# EAGLE library part STM8S003F3U6TR (library stm8)
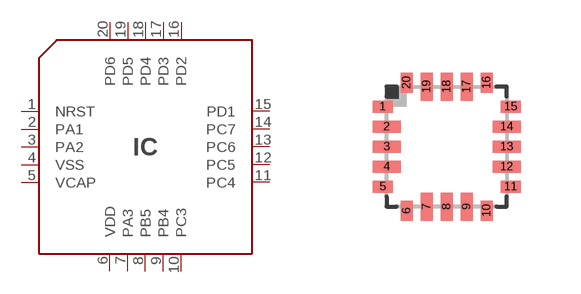
[diagram p2: symbol with the pads of UFQFPN20; footprint UFQFPN20]

Designator prefix IC

## STM8S003F3U6TR-UFQFPN20 (DIGIKEY#: 497-18052-1-ND; LINK: https://www.chipdip.ru/product0/8001794539; MANF: STMicroelectronics; MANF#: STM8S003F3U6TR)  [UFQFPN20]
1  NRST
2  PA1
3  PA2
4  VSS
5  VCAP
6  VDD
7  PA3
8  PB5
9  PB4
10  PC3
11  PC4
12  PC5
13  PC6
14  PC7
15  PD1
16  PD2
17  PD3
18  PD4
19  PD5
20  PD6

## Footprint UFQFPN20 (pad centres in mm)
smd 0.5 x 0.3: 1 -1.6,1; 5 -1.6,-1; 11 1.6,-1; 15 1.6,1
smd 0.7 x 0.3: 2 -1.5,0.5; 3 -1.5,0; 4 -1.5,-0.5; 12 1.5,-0.5; 13 1.5,0; 14 1.5,0.5
smd 0.3 x 0.5: 6 -1,-1.6; 10 1,-1.6; 16 1,1.6; 20 -1,1.6
smd 0.3 x 0.7: 7 -0.5,-1.5; 8 0,-1.5; 9 0.5,-1.5; 17 0.5,1.5; 18 0,1.5; 19 -0.5,1.5